# Altium footprint library D2PAK_TO263.PcbLib: 1 footprints
Each footprint in its own frame and in the unit in brackets; x right, y up, seen from the top. Pads: shape width x height; smd on the part's side, far side on the other; paste and mask are expansions set on the pad; w line width, h text height; cw(c..) or ccw(c..) is an arc to the next point about the centre after c.
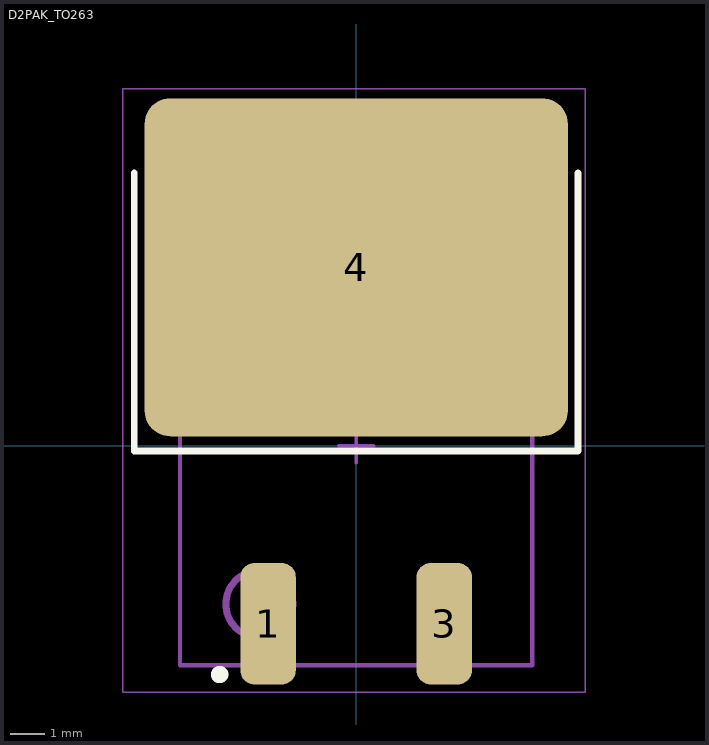
[diagram p0: the footprint, top view; thin cyan lines are the x and y axes]

## D2PAK_TO263 [mm] "D2PAK footrpint from ST"
height 4.6
pads (3):
  rrect50% 1.6x3.5 smd: 1(-2.54,-5.138) 3(2.54,-5.138)
  rrect15% 12.2x9.75 smd: 4(0,5.138)
Top Overlay:
  circle w0.25: c-3.937,-6.604 r0.125
  lines w0.2: -6.4,-0.163 6.4,-0.163 6.4,7.862 ; -6.4,-0.112 -6.4,7.862
Top Assembly:
  circle w0.2: c-2.794,-4.572 r0.967
  lines w0.127: -5.08,-6.341 5.08,-6.341 5.08,8.923 -5.08,8.923 -5.08,-6.341
Top Courtyard:
  lines w0.05: -6.731,-7.112 6.604,-7.112 6.604,10.287 -6.731,10.287 -6.731,-7.112
  lines w0.1: -0.5,0 0.5,0 ; 0,-0.5 0,0.5
3D body "User Library-DPAK.step": height 4.98, standoff -0.03, extent -5.08,-6.341 5.08,8.923